# Altium integrated library CSD18536KTT.IntLib: 2 symbols
Pins are listed as number, name and electrical type; pins without a type are passive.

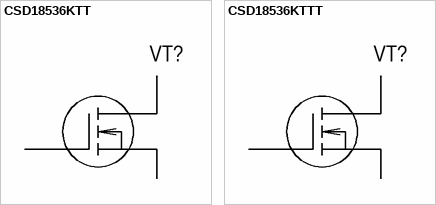
[diagram p0: symbols CSD18536KTT to CSD18536KTTT]

## CSD18536KTT
designator VT?  (value not drawn)
60V N-Channel NexFET™ Power MOSFET
footprint KTT0002A (TO-263, 3-Leads, Body 10.26 x 9.25 mm, IPC Medium Density)
pins: 1 GATE, 2 DRAIN, 3 SOURCE

## CSD18536KTTT
designator VT?  (value not drawn)
60V N-Channel NexFET™ Power MOSFET
footprint KTT0002A (TO-263, 3-Leads, Body 10.26 x 9.25 mm, IPC Medium Density)
pins: 1 GATE, 2 DRAIN, 3 SOURCE